# EAGLE library part H11A1SM (library HomeKinection)
The general purpose optocouplers consist of a gallium arsenide infrared emitting diode driving a silicon phototransistor in a 6-pin dual in-line package.
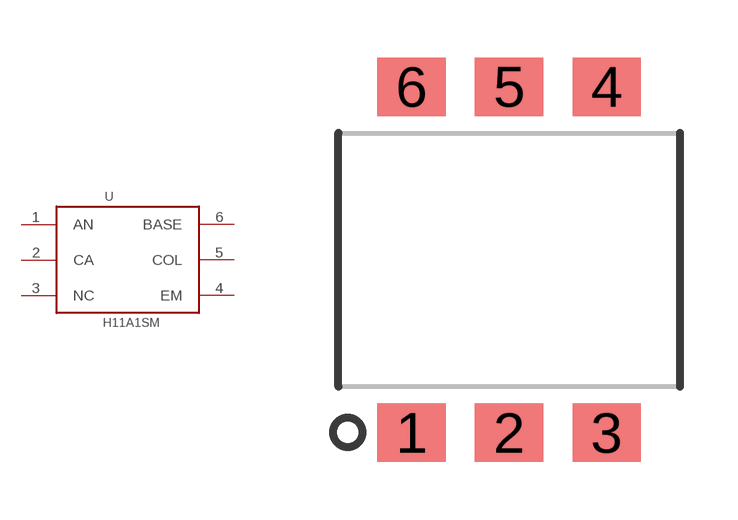
[diagram p4: symbol with the pads of H11A1SM; footprint H11A1SM]

Designator prefix -

## H11A1SM  [H11A1SM]
1  AN  pas
2  CA  pas
3  NC  nc
4  EM  pas
5  COL  pas
6  BASE  pas

## Footprint H11A1SM (pad centres in mm)
smd 1.78 x 1.52: 1 -2.54,-4.508; 2 0,-4.508; 3 2.54,-4.508; 4 2.54,4.508; 5 0,4.508; 6 -2.54,4.508